# Altium schematic symbol library Schlib_ONSemiconductor.SchLib: 74 symbols
Pins are listed as number, name and electrical type; pins without a type are passive.

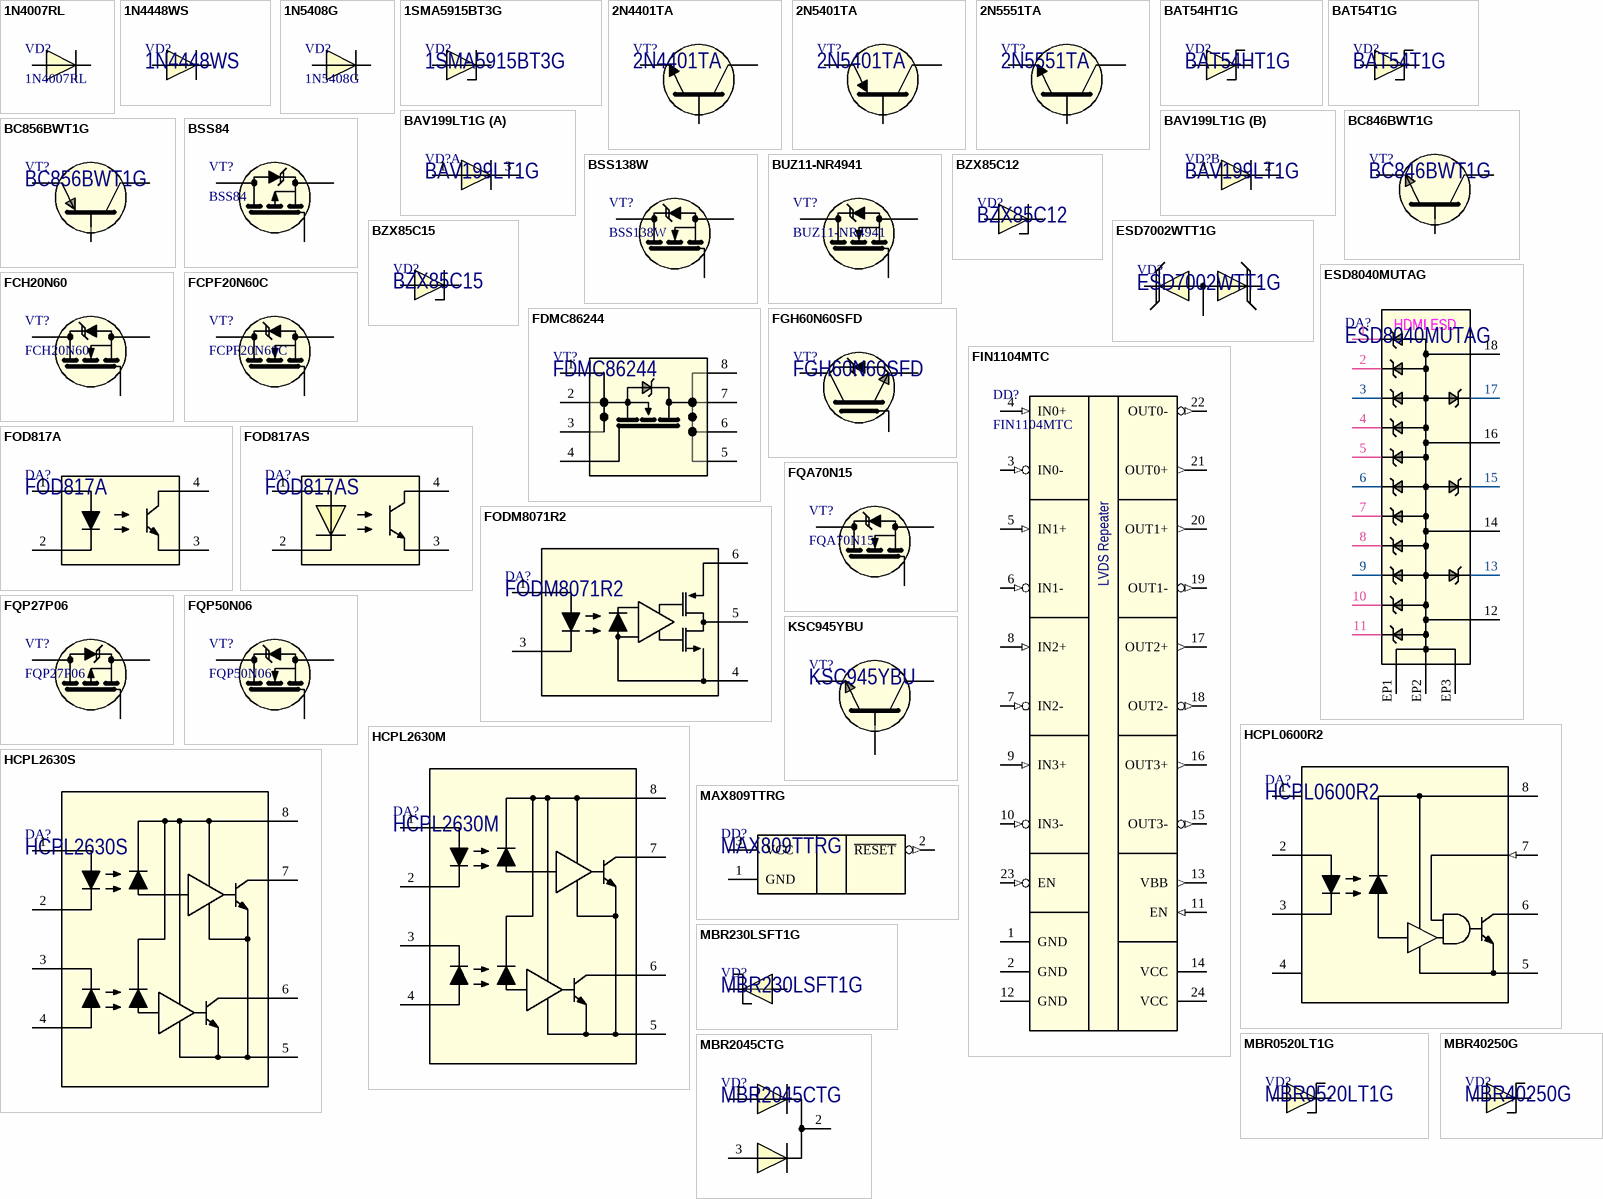
[diagram p0: symbols 1N4007RL to MBR40250G]

## 1N4007RL
designator VD?
1A 1000V Standard Recovery Rectifiers Diode; Manufacturer: ON Semiconductor; Part Number: 1N4007RL; Package: DO-41
footprint DO-41
footprint DO-41(VERTICAL)
pins: 1 C, 2 A

## 1N4448WS
designator VD?
Diode 75V, 150mA; Manufacturer: ON Semiconductor; Package: SOD-323F; Part Number: 1N4448WS
footprint SOD-323F
pins: 1 C, 2 A

## 1N5408G
designator VD?
3A 1000V Standard Recovery Rectifiers Diode; Manufacturer: ON Semiconductor; Part Number: 1N5408G; Package: DO-201AD
footprint DO-201AD (Package DO-201AD/DO-27)
pins: 1 C, 2 A

## 1SMA5915BT3G
designator VD?
DIODE ZENER 3.9V 1.5W SMA; Manufacturer: ON Semiconductor; Package: DO-214AC, SMA; Part Number: 1SMA5915BT3G
footprint SMA (Molded Diode, 2-Leads, Body 4.3x2.6mm, IPC Medium Density, based on OnSemi component dimensions and land pattern)
pins: 1 C, 2 A

## 2N4401TA
designator VT?
General Purpose n-p-n Transistors; Manufacturer: ON Semiconductor; Package: TO-92; Part Number: 2N4401TA
footprint TO-92 (VERTICAL,LINE)
footprint TO-92 (VERTICAL,TRIANGLE)
pins: 1 E, 2 B, 3 C

## 2N5401TA
designator VT?
General Purpose p-n-p Transistors; Manufacturer: ON Semiconductor; Package: TO-92; Part Number: 2N5401TA
footprint TO-92 (VERTICAL,LINE)
footprint TO-92 (VERTICAL,TRIANGLE)
pins: 1 E, 2 B, 3 C

## 2N5551TA
designator VT?
General Purpose n-p-n Transistors; Manufacturer: ON Semiconductor; Package: TO-92; Part Number: 2N5551TA
footprint TO-92 (VERTICAL,LINE)
footprint TO-92 (VERTICAL,TRIANGLE)
pins: 1 E, 2 B, 3 C

## BAT54HT1G
designator VD?
Diode Schottky 30V, 200mA; Manufacturer: ON Semiconductor; Package: SOD-323; Part Number: BAT54HT1G
footprint SOD-323
pins: 1 C, 2 A

## BAT54T1G
designator VD?
Diode Schottky 30V, 200mA; Manufacturer: ON Semiconductor; Package: SOD-123; Part Number: BAT54T1G
footprint SOD123
pins: 1 C, 2 A

## BAV199LT1G
designator VD?
Diode array 100V, 215MA; Manufacturer: ON Semiconductor; Package: SOT23-3; Part Number: BAV199LT1G
footprint SOT23-3 (SOT23, 6-Leads, Body 2.90x2.80mm, Pitch 0.95mm, IPC Medium Density)
part A pins: 1 ANODE, 3 CENTR (power)
part B pins: 2 CATHODE (power), 3 CENTR (power)

## BC846BWT1G
designator VT?
General Purpose n-p-n Transistors; Manufacturer: ON Semiconductor; Package: SC70-3; Part Number: BC846BWT1G
footprint SC70-3
pins: 1 B, 2 E, 3 C

## BC856BWT1G
designator VT?
General Purpose p-n-p Transistors; Manufacturer: ON Semiconductor; Package: SC70-3; Part Number: BC856BWT1G
footprint SC70-3
pins: 1 B, 2 E, 3 C

## BSS84
designator VT?
P-Channel MOSFET, -50V, -0.13A; Manufacturer: ON Semiconductor; Part Number: BSS84; Package: SOT23-3
footprint SOT23-3 (SOT23, 6-Leads, Body 2.90x2.80mm, Pitch 0.95mm, IPC Medium Density)
pins: 1 G, 2 S, 3 D

## BSS138W
designator VT?
N-Channel Logic Level Enhancement Mode Field Effect Transistor 50V @ 0.21A; Manufacturer: ON Semiconductor; Part Number: BSS138W; Package: SC70-3
footprint SC70-3
pins: 1 G, 2 S, 3 D

## BUZ11-NR4941
designator VT?
50V @ 30A N-Channel MOSFET Rds=40mOhm @ 15A, 10V; Manufacturer: ON Semiconductor; Part Number: BUZ11-NR4941; Package: TO-220
footprint TO-220A-3
footprint TO-220A-3 (HORIZONTAL)
pins: 1 G, 2 D, 3 S

## BZX85C12
designator VD?
Zener Diode 12V; Manufacturer: ON Semiconductor; Package: DO-41; Part Number: BZX85C12
footprint DO-41 GLASS LIGHT RED
footprint DO-41 GLASS LIGHT RED (VERTICAL)
footprint DO-41 GLASS YELLOW
footprint DO-41 GLASS YELLOW (VERTICAL)
pins: 1 C, 2 A

## BZX85C15
designator VD?
Zener Diode 15V; Manufacturer: ON Semiconductor; Package: DO-41; Part Number: BZX85C15
footprint DO-41 GLASS LIGHT RED
footprint DO-41 GLASS LIGHT RED (VERTICAL)
footprint DO-41 GLASS YELLOW
footprint DO-41 GLASS YELLOW (VERTICAL)
pins: 1 C, 2 A

## ESD7002WTT1G
designator VD?
ESD Protection Diode (TVS diode); Manufacturer: ON Semiconductor; Package: SC-70-3; Part Number: ESD7002WTT1G
footprint SC70-3
pins: 1 ANODE1, 2 ANODE2 (power), 3 CATHODE (power)

## ESD8040MUTAG
designator DA?
Low Capacitance Array for High Speed Video Interfaces; Manufacturer: ON Semiconductor; Package: UDFN18; Part Number: ESD8040MUTAG
footprint UDFN18
pins: 1 "TDMS Pins", 2 "TDMS Pins", 3, 4 "TDMS Pins", 5 "TDMS Pins", 6, 7 "TDMS Pins", 8 "TDMS Pins", 9, 10 "TDMS Pins", 11 "TDMS Pins", 12, 13, 14, 15, 16, 17, 18, EP1, EP2, EP3
text: HDMI ESD

## FCH20N60
designator VT?
600V @ 20A N-Channel MOSFET; Manufacturer: ON Semiconductor; Part Number: FCH20N60; Package: TO-247
footprint TO-247 ((HORIZONTAL, BOTTOM)
footprint TO-247 ((HORIZONTAL, TOP)
footprint TO-247 (VERTICAL)
footprint TO-247_with_TO-220 (VERTICAL)
pins: 1 G, 2 D, 3 S

## FCPF20N60C
designator VT?
600V @ 20A N-Channel MOSFET; Manufacturer: ON Semiconductor; Part Number: FCPF20N60C; Package: TO-220
footprint TO-220F
pins: 1 G, 2 D, 3 S

## FDMC86244
designator VT?
N-channel MOSFET, 150V, 9.4A, 134 mOhm; Manufacturer: ON Semiconductor; Package: MLP (3.3 x 3.3 mm); Part Number: FDMC86244
pins: 1 S, 2 S, 3 S, 4 G, 5 D, 6 D, 7 D, 8 D

## FGH60N60SFD
designator VT?
600V @ 60A Field Stop IGBT; Manufacturer: ON Semiconductor; Package: TO-247; Part Number: FGH60N60SFD
footprint TO-247 (VERTICAL)
footprint TO-247 ((HORIZONTAL, TOP)
footprint TO-247 ((HORIZONTAL, BOTTOM)
pins: 1 G, 2 C, 3 E

## FIN1104MTC
designator DD?
High speed 4xLVDS repeater; Manufacturer: ON Semiconductor; Package: TSSOP24; Part Nubmer: FIN1104MTC
footprint TSSOP-24 (TSOP, 24-Leads, Pitch 0.65mm, IPC Medium Density)
pins: 1 GND (power), 2 GND (power), 3 IN0- (in), 4 IN0+ (in), 5 IN1+ (in), 6 IN1- (in), 7 IN2- (in), 8 IN2+ (in), 9 IN3+ (in), 10 IN3- (in), 11 EN (in), 12 GND (power), 13 VBB (out), 14 VCC (power), 15 OUT3- (out), 16 OUT3+ (out), 17 OUT2+ (out), 18 OUT2- (out), 19 OUT1- (out), 20 OUT1+ (out), 21 OUT0+ (out), 22 OUT0- (out), 23 EN (in), 24 VCC (power)
text: LVDS Repeater

## FOD817A
designator DA?
5kV Phototransistor Optocoupler; Manufacturer: ON Semiconductor; Package: DIP-4; Part Number: FOD817A
footprint DIP-4P (Plastic DIP, 4 pin, lead pitch 2.54mm (0.1"), row spacing 7.62mm (0.3").)
pins: 1 ANODE, 2 CATHODE (power), 3 EMITTER, 4 COLLECTOR

## FOD817AS
designator DA?
Optoisolator 5kV transistor; Manufacturer: ON Semiconductor; Package: 4-SMD (4.1 x 9.86 mm); Part Number: FOD817AS
footprint N04C (FAIRCHILD)
pins: 1 ANODE, 2 CATHODE (power), 3 EMITTER, 4 COLLECTOR

## FODM8071R2
designator DA?
3.3V/5V Logic Gate Output Optocoupler with Nigh Noise Immunity; Manufacturer: ON Semiconductor; Package: Mini-Flat 5-Pin; Part Number: FODM8071R2
footprint MLP5L
pins: 1 ANODE, 3 CATHODE (power), 4 GND, 5 Vo, 6 VDD

## FQA70N15
designator VT?
150V @ 70A 28 mΩ N-Channel MOSFET; Manufacturer: ON Semiconductor; Part Number: FQA70N15; Package: TO-3PN
footprint TO-3PN (VERTICAL)
footprint TO-3PN_with_TO-220 (VERTICAL)
pins: 1 G, 2 D, 3 S

## FQP27P06
designator VT?
P-Channel MOSFET, -60V, 27A; Manufacturer: ON Semiconductor; Part Number: FQP27P06; Package: TO-220
footprint TO-220A-3
footprint TO-220A-3 (HORIZONTAL)
footprint TO-220A-3 (HORIZONTAL, 1.2MM)
pins: 1 G, 2 D, 3 S

## FQP50N06
designator VT?
60V @ 50A N-Channel MOSFET Rds=22mOhm @ 25A, 10V; Manufacturer: ON Semiconductor; Part Number: FQP50N06; Package: TO-220
footprint TO-220B-3
footprint TO-220B-3 (HORIZONTAL)
pins: 1 G, 2 D, 3 S

## HCPL0600R2
designator DA?
High-Speed 10 MBit/s Logic Gate Optocouplers; Manufacturer: ON Semiconductor; Package: SO-8 Tall; Part Number: HCPL0600R2
footprint SO8-HCPL
pins: 1 NC (hiz), 2 ANODE, 3 CATHODE, 4 NC (hiz), 5 GND, 6 V0, 7 VE (in), 8 VCC

## HCPL2630M
designator DA?
Dual-Channel High-Speed 10 MBit/s Logic Gate Optocouplers; Manufacturer: ON Semiconductor; Package: DIP-8; Part Number: HCPL2630M
footprint DIP-8P-M01 (Plastic DIP, 8 pin, lead pitch 2.54mm (0.1"), row spacing 7.62mm (0.3").)
footprint PDIP8_GW_DIP8
pins: 1 ANODE1, 2 CATHODE1 (power), 3 CATHODE2 (power), 4 ANODE2, 5 GND, 6 V02, 7 V01, 8 VCC (power)

## HCPL2630S
designator DA?
Dual-Channel High-Speed 10 MBit/s Logic Gate Optocouplers; Manufacturer: ON Semiconductor; Package: PDIP8_GW; Part Number: HCPL2630S
footprint PDIP8_GW
footprint PDIP8_GW_DIP8
pins: 1 ANODE1, 2 CATHODE1 (power), 3 CATHODE2 (power), 4 ANODE2, 5 GND, 6 V02, 7 V01, 8 VCC (power)

## KSC945YBU
designator VT?
General Purpose n-p-n Transistors 50V 150mA 300MHz; Manufacturer: ON Semiconductor; Package: TO-92; Part Number: KSC945YBU
footprint TO-92 (VERTICAL,LINE)
footprint TO-92 (VERTICAL,TRIANGLE)
pins: 1 E, 2 B, 3 C

## MAX809TTRG
designator DD?
Reset Monitors; Manufacturer: ON Semiconductor; Package: SOT23-3; Part Number: MAX809TTRG
footprint SOT23-3 (SOT23, 6-Leads, Body 2.90x2.80mm, Pitch 0.95mm, IPC Medium Density)
pins: 1 GND (power), 2 ~{RESET} (out), 3 VCC (power)

## MBR230LSFT1G
designator VD?
Diode Schottky 30V, 2A; Manufacturer: ON Semiconductor; Package: SOD-123F; Part Number: MBR230LSFT1G
footprint SOD123F
pins: 1 A, 2 C

## MBR0520LT1G
designator VD?
Diode Schottky 20V, 0.5A; Manufacturer: ON Semiconductor; Package: SOD-123; Part Number: MBR0520LT1G
footprint SOD123
pins: 1 C, 2 A

## MBR2045CTG
designator VD?
Switch-mode Power Rectifier Diode 45V, 2x10A; Manufacturer: ON Semiconductor; Package: TO-220; Part Number: MBR2045CTG
footprint TO-220B-3
footprint TO-220B-3 (HORIZONTAL)
pins: 1 A1, 2 C, 3 A2

## MBR40250G
designator VD?
Diode Schottky 250V, 40A; Manufacturer: ON Semiconductor; Package: TO-220-2; Part Number: MBR40250G
footprint TO-220-2
pins: 1 C, 3 A

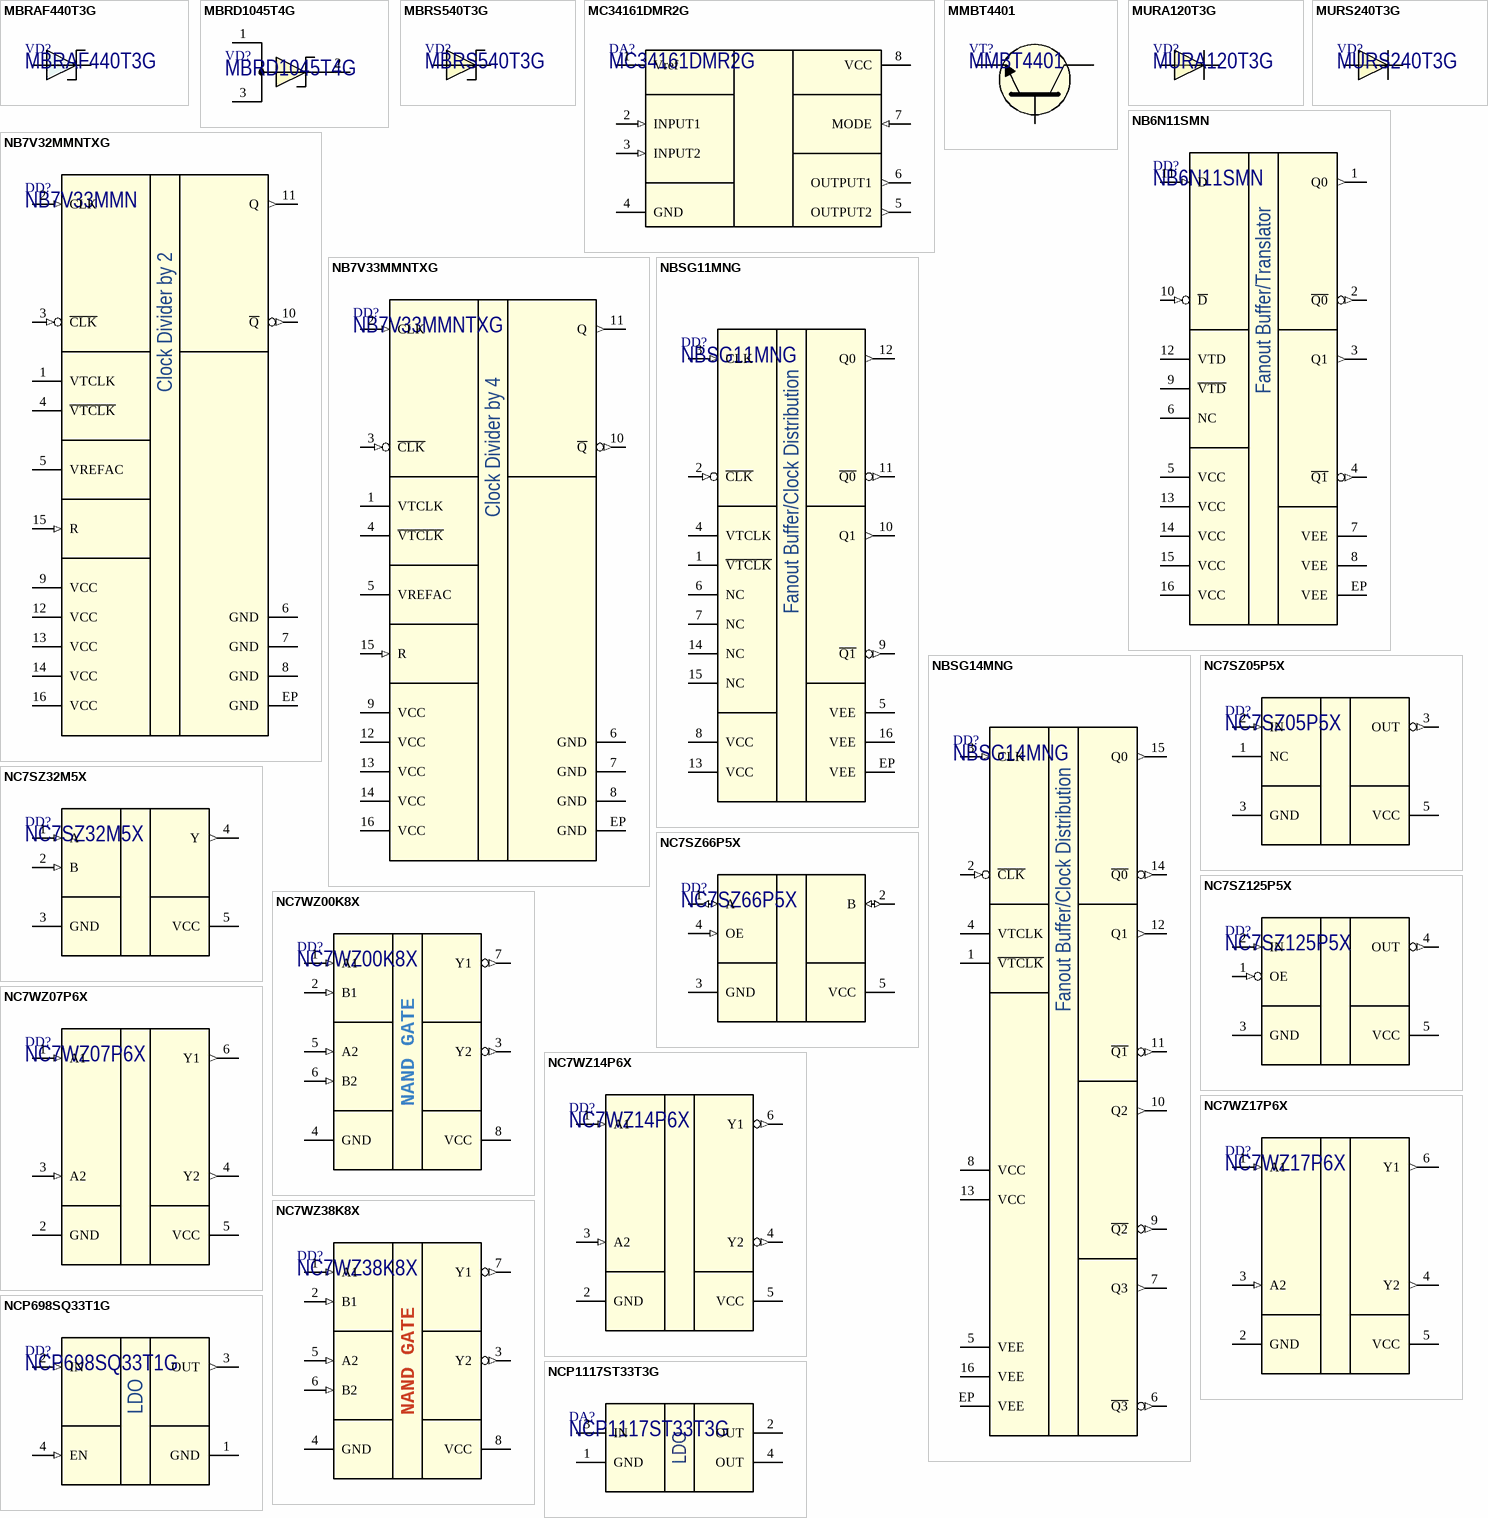
[diagram p1: symbols MBRAF440T3G to NCP1117ST33T3G]

## MBRAF440T3G
designator VD?
Diode Schottky 40V, 4A; Manufacturer: ON Semiconductor; Package: SMA-FL; Part Number: MBRAF440T3G
footprint SMA-FL (SMA-FL Case 403AA Style 6)
pins: 1 C, 2 A

## MBRD1045T4G
designator VD?
Schottky Power Rectifier, Switch-Mode, 10 A, 45 V; Manufacturer: ON Semiconductor; Package: TO-252; Part Number: MBRD1045T4G
footprint TO-252-3 (D-PAK, 3-Pads, Body 6.15x6.66mm (max), IPC Medium Density)
pins: 1 A, 2 C, 3 A

## MBRS540T3G
designator VD?
Diode Schottky 40V, 5A; Manufacturer: ON Semiconductor; Package: SMC/DO-214AB; Part Number: MBRS540T3G
footprint DO-214AB (Molded Diode, 2-Leads, Body 6.9x5.8mm)
pins: 1 A, 2 C

## MC34161DMR2G
designator DA?
Universal Voltage Monitors; Manufacturer: ON Semiconductor; Package: Micro8 (3x3mm); Part Number: MC34161DMR2G
footprint MSOP-8 (TSOP, 8-Leads, Body 3.00x3.00mm, Pitch 0.65mm, IPC Medium Density)
pins: 1 Vref (power), 2 INPUT1 (in), 3 INPUT2 (in), 4 GND (power), 5 OUTPUT2 (out), 6 OUTPUT1 (out), 7 MODE (in), 8 VCC (power)

## MMBT4401
designator VT?
General Purpose n-p-n Transistors; Manufacturer: ON Semiconductor; Package: SOT-23-3; Part Number: MMBT4401
footprint SOT23-3 (SOT23, 6-Leads, Body 2.90x2.80mm, Pitch 0.95mm, IPC Medium Density)
pins: 1 B, 2 E, 3 C

## MURA120T3G
designator VD?
Diode 200V, 2A; Manufacturer: ON Semiconductor; Package: DO-214AC, SMA; Part Number: MURA120T3G
footprint SMA (Molded Diode, 2-Leads, Body 4.3x2.6mm, IPC Medium Density, based on OnSemi component dimensions and land pattern)
pins: 1 C, 2 A

## MURS240T3G
designator VD?
Diode 400V, 2A; Manufacturer: ON Semiconductor; Package: DO-214AA, SMB; Part Number: MURS240T3G
footprint SMB (DO-214AA)
pins: 1 C, 2 A

## NB6N11SMN
designator DD?
3.3 V 1:2 Any Level Input / to LVDS Fanout Buffer/Translator; Manufacturer: ON Semiconductor; Package: QFN-16; Part Number: NB6N11SMN
footprint QFN16
pins: 1 Q0 (out), 2 ~{Q0} (out), 3 Q1 (out), 4 ~{Q1} (out), 5 VCC (power), 6 NC (hiz), 7 VEE (power), 8 VEE (power), 9 ~{VTD}, 10 ~{D} (in), 11 D (in), 12 VTD, 13 VCC (power), 14 VCC (power), 15 VCC (power), 16 VCC (power), EP VEE (power)
text: Fanout Buffer/Translator

## NB7V32MMNTXG
designator DD?, comment NB7V33MMN
1.8V / 2.5V, 10GHz ÷4 Clock Divider with CML Outputs; Manufacturer: ON Semiconductor; Package: QFN-16; Part Number: NB7V33MMN
footprint QFN16
pins: 1 VTCLK, 2 CLK (in), 3 ~{CLK} (in), 4 ~{VTCLK}, 5 VREFAC, 6 GND (power), 7 GND (power), 8 GND (power), 9 VCC (power), 10 ~{Q} (out), 11 Q (out), 12 VCC (power), 13 VCC (power), 14 VCC (power), 15 R (in), 16 VCC (power), EP GND (power)
text: Clock Divider by 2

## NB7V33MMNTXG
designator DD?
1.8V / 2.5V, 10GHz ÷4 Clock Divider with CML Outputs; Manufacturer: ON Semiconductor; Package: QFN-16; Part Number: NB7V33MMNTXG
footprint QFN16
pins: 1 VTCLK, 2 CLK (in), 3 ~{CLK} (in), 4 ~{VTCLK}, 5 VREFAC, 6 GND (power), 7 GND (power), 8 GND (power), 9 VCC (power), 10 ~{Q} (out), 11 Q (out), 12 VCC (power), 13 VCC (power), 14 VCC (power), 15 R (in), 16 VCC (power), EP GND (power)
text: Clock Divider by 4

## NBSG11MNG
designator DD?
2.5V/3.3V SiGe 1:2 Differential Clock Driver with Reduced Swing ECL Outputs; Manufacturer: ON Semiconductor; Package: QFN-16; Part Number: NBSG11MNG
footprint QFN16
pins: 1 ~{VTCLK}, 2 ~{CLK} (in), 3 CLK (in), 4 VTCLK, 5 VEE (power), 6 NC (hiz), 7 NC (hiz), 8 VCC (power), 9 ~{Q1} (out), 10 Q1 (out), 11 ~{Q0} (out), 12 Q0 (out), 13 VCC (power), 14 NC (hiz), 15 NC (hiz), 16 VEE (power), EP VEE (power)
text: Fanout Buffer/Clock Distribution

## NBSG14MNG
designator DD?
2.5V/3.3V SiGe 1:4 Differential Clock Driver with Reduced Swing ECL Outputs; Manufacturer: ON Semiconductor; Package: QFN-16; Part Number: NBSG14MNG
footprint QFN16
pins: 1 ~{VTCLK}, 2 ~{CLK} (in), 3 CLK (in), 4 VTCLK, 5 VEE (power), 6 ~{Q3} (out), 7 Q3 (out), 8 VCC (power), 9 ~{Q2} (out), 10 Q2 (out), 11 ~{Q1} (out), 12 Q1 (out), 13 VCC (power), 14 ~{Q0} (out), 15 Q0 (out), 16 VEE (power), EP VEE (power)
text: Fanout Buffer/Clock Distribution

## NC7SZ05P5X
designator DD?
Invertor with open drain output; Manufacturer: ON Semiconductor; Package: SC70-5; Part Number: NC7SZ05P5X
footprint SC70-5
pins: 1 NC (hiz), 2 IN (in), 3 GND (power), 3 OUT (out), 5 VCC (power)

## NC7SZ32M5X
designator DD?
Two-Input OR Gate; Manufacturer: ON Semiconductor; Package: SOT23-3; Part Number: NC7SZ32M5X
footprint SOT23-5 (SOT23, 6-Leads, Body 2.90x2.80mm, Pitch 0.95mm, IPC Medium Density)
pins: 1 A (in), 2 B (in), 3 GND (power), 4 Y (out), 5 VCC (power)

## NC7SZ66P5X
designator DD?
Low voltage single SPST normally open bus switch; Manufacturer: ON Semiconductor; Package: SC70-5; Part Number: NC7SZ66P5X
footprint SC70-5
pins: 1 A (io), 2 B (io), 3 GND (power), 4 OE (in), 5 VCC (power)

## NC7SZ125P5X
designator DD?
UHS Buffer with Three-State Output; Manufacturer: ON Semiconductor; Package: SC70-5; Part Number: NC7SZ125P5X
footprint SC70-5
pins: 1 OE (in), 2 IN (in), 3 GND (power), 4 OUT (out), 5 VCC (power)

## NC7WZ00K8X
designator DD?
Dual 2-Input NAND Gate; Manufacturer: ON Semiconductor; Package: US8; Part Number: NC7WZ00K8X
footprint US8
pins: 1 A1 (in), 2 B1 (in), 3 Y2 (out), 4 GND (power), 5 A2 (in), 6 B2 (in), 7 Y1 (out), 8 VCC (power)
text: NAND GATE

## NC7WZ07P6X
designator DD?
UHS Dual Buffer with Open-Drain Outputs; Manufacturer: ON Semiconductor; Package: SC70-6; Part Number: NC7WZ07P6X
footprint SC70-6
pins: 1 A1 (in), 2 GND (power), 3 A2 (in), 4 Y2 (out), 5 VCC (power), 6 Y1 (out)

## NC7WZ14P6X
designator DD?
UHS Dual Inverter with Schmitt Trigger Inputs; Manufacturer: ON Semiconductor; Package: SC70-6; Part Number: NC7WZ14P6X
footprint SC70-6
pins: 1 A1 (in), 2 GND (power), 3 A2 (in), 4 Y2 (out), 5 VCC (power), 6 Y1 (out)

## NC7WZ17P6X
designator DD?
UHS Dual Buffer with Schmitt Trigger Inputs; Manufacturer: ON Semiconductor; Package: SC70-6; Part Number: NC7WZ17P6X
footprint SC70-6
pins: 1 A1 (in), 2 GND (power), 3 A2 (in), 4 Y2 (out), 5 VCC (power), 6 Y1 (out)

## NC7WZ38K8X
designator DD?
Dual 2-Input NAND Gate (Open Drain Output); Manufacturer: ON Semiconductor; Package: US8; Part Number: NC7WZ38K8X
footprint US8
pins: 1 A1 (in), 2 B1 (in), 3 Y2 (out), 4 GND (power), 5 A2 (in), 6 B2 (in), 7 Y1 (out), 8 VCC (power)
text: NAND GATE

## NCP698SQ33T1G
designator DD?
150 mA CMOS Ultra Low Iq and IGND LDO Regulator with Enable; Manufacturer: ON Semiconductor; Package: SC-82AB; Part Number: NCP698SQ33T1G
footprint SC-82AB
pins: 1 GND (power), 2 IN (in), 3 OUT (out), 4 EN (in)
text: LDO

## NCP1117ST33T3G
designator DA?
1.0 A Low-Dropout Positive Fixed Voltage Regulators; Manufacturer: ON Semiconductor; Package: SOT223; Part Number: NCP1117ST33T3G
footprint SOT223-4 (SOT223, 4-Leads, Body 6.50x7.00mm (avg), Pitch 2.30mm, IPC Medium Density)
pins: 1 GND (power), 2 OUT (power), 3 IN (power), 4 OUT (power)
text: LDO

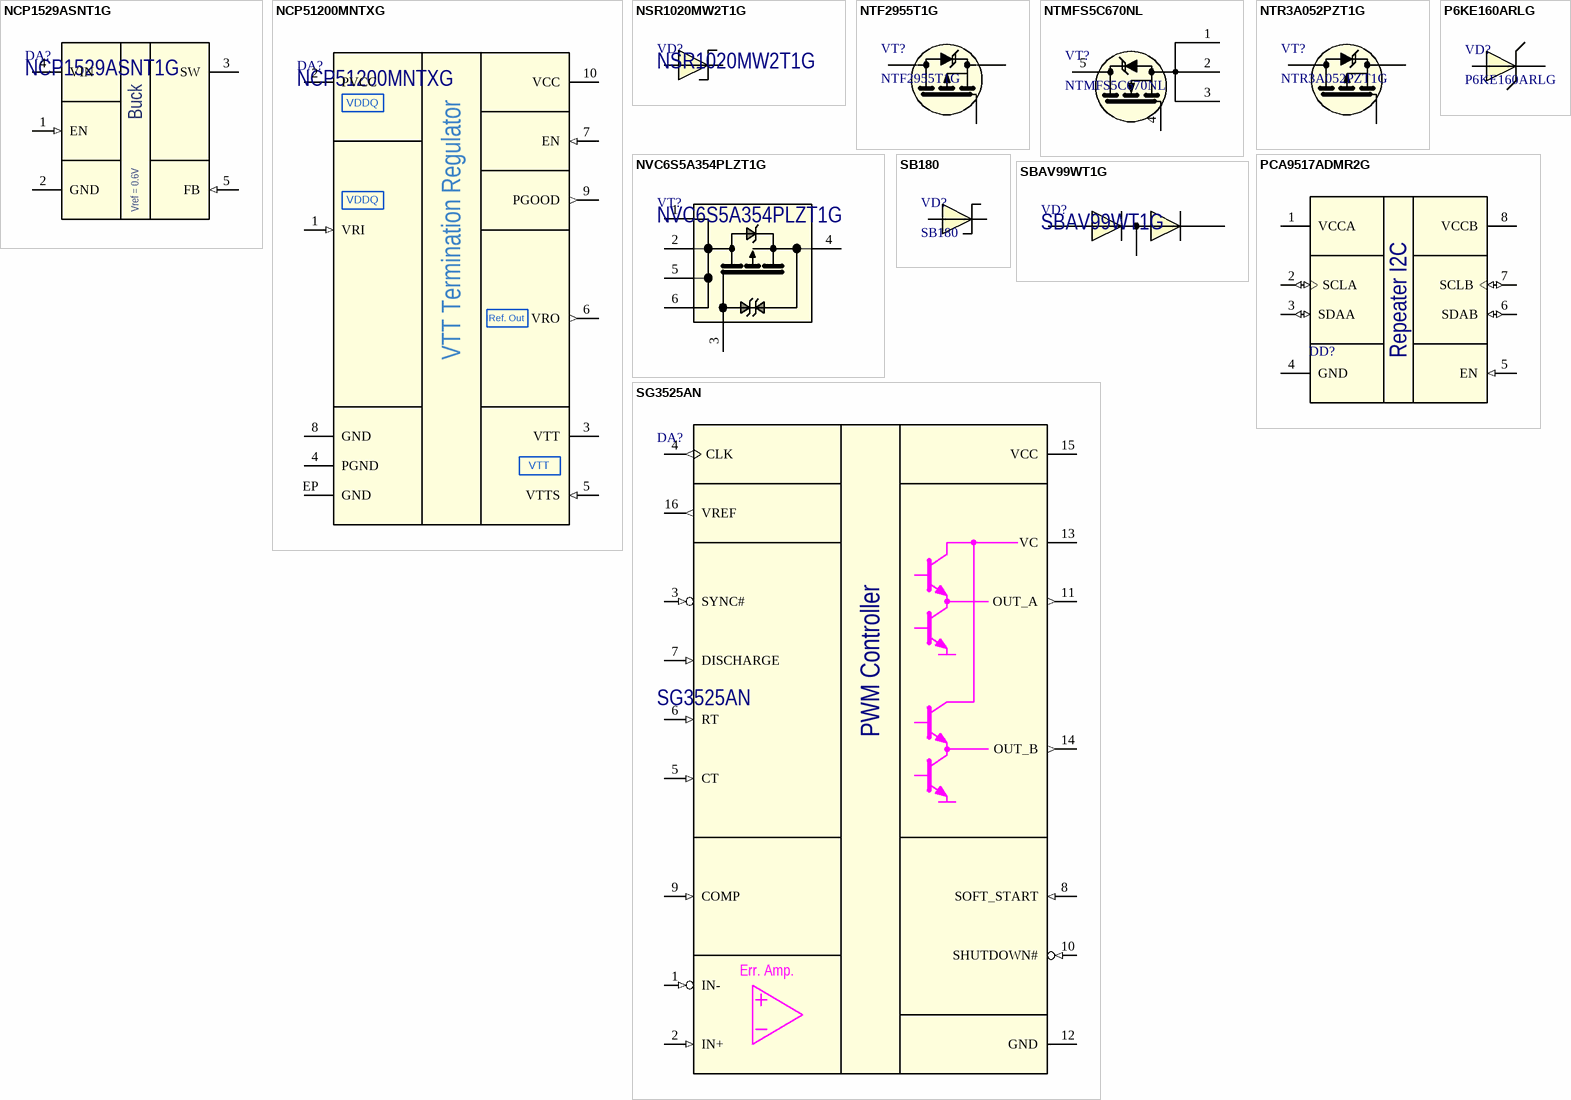
[diagram p2: symbols NCP1529ASNT1G to SG3525AN]

## NCP1529ASNT1G
designator DA?
Buck Converter 1.7 MHz, 1 A; Manufacturer: ON Semiconductor; Package: TSOP-5; Part Number: NCP1529ASNT1G
footprint TSOP-5 (TSOP-5 package)
pins: 1 EN (in), 2 GND (power), 3 SW (power), 4 VIN (power), 5 FB (in)
text: Buck; Vref = 0.6V

## NCP51200MNTXG
designator DA?
Sink and Source DDR Termination Regulator; Manufacturer: ON Semiconductor; Part Number: NCP51200MNTXG; Package: DFN-10
footprint DFN-10_ONSEMI (DFN-10 package with 0.5mm pitch)
pins: 1 VRI (in), 2 PVCC (power), 3 VTT (power), 4 PGND (power), 5 VTTS (in), 6 VRO (out), 7 EN (in), 8 GND (power), 9 PGOOD (out), 10 VCC (power), EP GND (power)
text: VDDQ; VTT Termination Regulator; Ref. Out

## NSR1020MW2T1G
designator VD?
Diode Schottky 20V, 1A; Manufacturer: ON Semiconductor; Package: SOD-323; Part Number: NSR1020MW2T1G
footprint SOD-323
pins: 1 A, 2 C

## NTF2955T1G
designator VT?
P-Channel MOSFET, -60V, -2.6A; Manufacturer: ON Semiconductor; Part Number: NTF2955T1G; Package: SOT223
footprint SOT223-4 (SOT223, 4-Leads, Body 6.50x7.00mm (avg), Pitch 2.30mm, IPC Medium Density)
pins: 1 G, 2 D, 3 S

## NTMFS5C670NL
designator VT?
N-Channel MOSFET 60V @ 71A 6.1 mOhm; Manufacturer: ON Semiconductor; Part Number: NTMFS5C670NL; Package: SO-8FL
footprint SO-8FL (TDSON-8, 8-Leads, Body 6,00x5,00mm, Pitch 1,27mm, Thermal Pad 4,1x2,4mm)
pins: 1 S, 2 S, 3 S, 4 G, 5 D

## NTR3A052PZT1G
designator VT?
P-Channel MOSFET, 20V, 3.6A; Manufacturer: ON Semiconductor; Part Number: NTR3A052PZT1G; Package: SOT23-3
footprint SOT23-3 (SOT23, 6-Leads, Body 2.90x2.80mm, Pitch 0.95mm, IPC Medium Density)
pins: 1 G, 2 S, 3 D

## NVC6S5A354PLZT1G
designator VT?
P-channel Power NOSFET -60V, 100 mOhm, -4A; Manufacturer: ON Semiconductor; Package: SOT-23-6; Part Number: NVC6S5A354PLZT1G
footprint SOT23-6 (SOT23, 6-Leads, Body 2.90x2.80mm, Pitch 0.95mm, IPC Medium Density)
pins: 1 D, 2 D, 3 G, 4 S, 5 D, 6 D

## P6KE160ARLG
designator VD?
600 Watt Peak Power Transient / Voltage Suppressors; Manufacturer: ON Semiconductor; Part Number: P6KE160ARLG; Package: DO-15
footprint DO-15
footprint DO-15(VERTICAL)
pins: 1 C, 2 A

## PCA9517ADMR2G
designator DD?  (value not drawn)
1-Channel IC I2C Bus repeater; Manufacturer: ON Semiconductor; PartNumber: PCA9517ADMR2G; Package: MSOP-8; Author: Sklyarov
footprint MSOP-8 (TSOP, 8-Leads, Body 3.00x3.00mm, Pitch 0.65mm, IPC Medium Density)
pins: 1 VCCA (power), 2 SCLA (io), 3 SDAA (io), 4 GND (power), 5 EN (in), 6 SDAB (io), 7 SCLB (io), 8 VCCB
text: Repeater I2C

## SB180
designator VD?
1A, 80V Schottky Barrier Rectifier; Manufacturer: ON Semiconductor; Part Number: SB180; Package: DO-41
footprint DO-41
footprint DO-41(VERTICAL)
pins: 1 C, 2 A

## SBAV99WT1G
designator VD?
Diode array 100V, 215MA; Manufacturer: ON Semiconductor; Package: SC-70-3; Part Number: SBAV99WT1G
footprint SC70-3
pins: 1 ANODE, 2 CATHODE (power), 3 CENTR (power)

## SG3525AN
designator DA?
Pulse-Width-Modulation Control Circuits; Manufacturer: ON Semiconductor; Part Number: SG3525AN; Package: DIP-16
footprint DIP-16P-M03 (Plastic DIP, 16 pin, lead pitch 2.54mm (0.1"), row spacing 7.62mm (0.3"))
pins: 1 IN- (in), 2 IN+ (in), 3 SYNC# (in), 4 CLK (out), 5 CT (in), 6 RT (in), 7 DISCHARGE (in), 8 SOFT_START (in), 9 COMP (in), 10 SHUTDOWN# (in), 11 OUT_A (out), 12 GND (power), 13 VC (power), 14 OUT_B (out), 15 VCC (power), 16 VREF (out)
text: PWM Controller; Err. Amp.